# Altium schematic symbol library EXP_V1.SchLib: 20 symbols
Pins are listed as number, name and electrical type; pins without a type are passive.

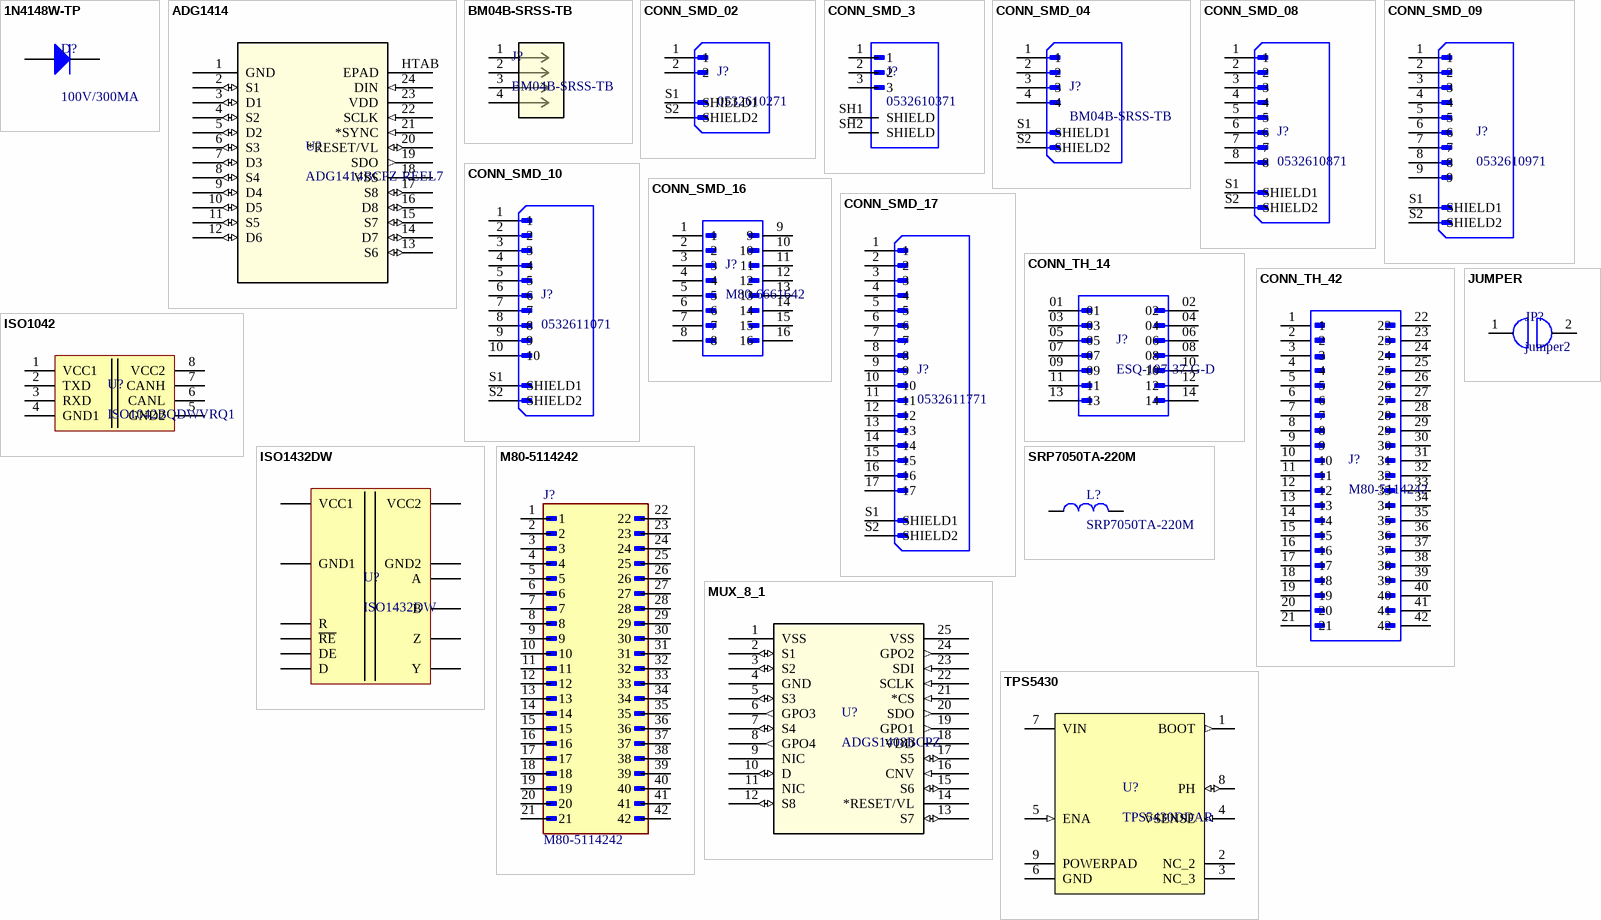
[diagram p0: symbols 1N4148W-TP to TPS5430]

## 1N4148W-TP
designator D?, comment 100V/300MA
DIODE GEN PURP 100V 300MA SOD123; MPN: 1N4148W-7-F; MFR: Diodes Incorporated; Solder: SMT; Value: 100V/300MA
footprint SOD-123-EXP-V101 (SOD123, 2-Leads, Body 2.6x1.6mm, Pitch 3.05mm, IPC High Density)
pins: 1 K, 2 A

## ADG1414
designator U?, comment ADG1414BCPZ-REEL7
IC SW SPST-NOX8 11.5OHM 24LFCSP
footprint ADG1414BCPZ-REEL7 (IC SW SPST-NOX8 11.5OHM 24LFCSP)
pins: 1 GND (power), 2 S1 (io), 3 D1 (io), 4 S2 (io), 5 D2 (io), 6 S3 (io), 7 D3 (io), 8 S4 (io), 9 D4 (io), 10 D5 (io), 11 S5 (io), 12 D6 (io), 13 S6 (io), 14 D7 (io), 15 S7 (io), 16 D8 (io), 17 S8 (io), 18 VSS (power), 19 SDO (out), 20 *RESET/VL (io), 21 *SYNC (in), 22 SCLK (in), 23 VDD (power), 24 DIN (in), HTAB EPAD

## BM04B-SRSS-TB
designator J?
CONN HEADER SMD 4POS 1MM
footprint BM04B-SRSS-TB (CONN HEADER SMD 4POS 1MM)
pins: 1, 2, 3, 4

## CONN_SMD_02
designator J?, comment 0532610271
CONN HEADER SMD R/A 2POS 1.25MM
footprint 0532610271 (CONN HEADER SMD R/A 2POS 1.25MM)
pins: 1, 2, S1 SHIELD1, S2 SHIELD2

## CONN_SMD_3
designator J?, comment 0532610371
CONN HEADER SMD R/A 3POS 1.25MM
footprint 0532610371 (CONN HEADER SMD R/A 3POS 1.25MM)
pins: 1, 2, 3, SH1 SHIELD, SH2 SHIELD

## CONN_SMD_04
designator J?, comment BM04B-SRSS-TB
CONN HEADER SMD 4POS 1MM
footprint BM04B-SRSS-TB (CONN HEADER SMD 4POS 1MM)
pins: 1, 2, 3, 4, S1 SHIELD1, S2 SHIELD2

## CONN_SMD_08
designator J?, comment 0532610871
CONN HEADER SMD R/A 8POS 1.25MM
footprint 0532610871 (CONN HEADER SMD R/A 8POS 1.25MM)
pins: 1, 2, 3, 4, 5, 6, 7, 8, S1 SHIELD1, S2 SHIELD2

## CONN_SMD_09
designator J?, comment 0532610971
CONN HEADER SMD R/A 9POS 1.25MM
footprint 0532610971 (CONN HEADER SMD R/A 9POS 1.25MM)
pins: 1, 2, 3, 4, 5, 6, 7, 8, 9, S1 SHIELD1, S2 SHIELD2

## CONN_SMD_10
designator J?, comment 0532611071
CONN HEADER SMD R/A 10POS 1.25MM
footprint 0532611071 (CONN HEADER SMD R/A 10POS 1.25MM)
pins: 1, 2, 3, 4, 5, 6, 7, 8, 9, 10, S1 SHIELD1, S2 SHIELD2

## CONN_SMD_16
designator J?, comment M80-6661642
CONN HEADER SMD R/A 16POS 2MM
footprint M80-6661642 (CONN HEADER SMD R/A 16POS 2MM)
pins: 1, 2, 3, 4, 5, 6, 7, 8, 9, 10, 11, 12, 13, 14, 15, 16

## CONN_SMD_17
designator J?, comment 0532611771
CONN HEADER SMD R/A 17POS 1.25MM
footprint 0532611771 (CONN HEADER SMD R/A 17POS 1.25MM)
pins: 1, 2, 3, 4, 5, 6, 7, 8, 9, 10, 11, 12, 13, 14, 15, 16, 17, S1 SHIELD1, S2 SHIELD2

## CONN_TH_14
designator J?, comment ESQ-107-37-G-D
CONN SOCKET 14POS 0.1 GOLD PCB
footprint ESQ-107-37-G-D (CONN SOCKET 14POS 0.1 GOLD PCB)
pins: 01, 02, 03, 04, 05, 06, 07, 08, 09, 10, 11, 12, 13, 14

## CONN_TH_42
designator J?, comment M80-5114242
CONN HEADER VERT 42POS 2MM
footprint M80-5114242 (CONN HEADER VERT 42POS 2MM)
pins: 1, 2, 3, 4, 5, 6, 7, 8, 9, 10, 11, 12, 13, 14, 15, 16, 17, 18, 19, 20, 21, 22, 23, 24, 25, 26, 27, 28, 29, 30, 31, 32, 33, 34, 35, 36, 37, 38, 39, 40, 41, 42

## ISO1042
designator U?, comment ISO1042BQDWVRQ1
IC TRANSCEIVER FULL 1/1 8SOIC
footprint ISO1042 (IC TRANSCEIVER FULL 1/1 8SOIC)
pins: 1 VCC1, 2 TXD, 3 RXD, 4 GND1, 5 GND2, 6 CANL, 7 CANH, 8 VCC2

## ISO1432DW
designator U?
IC TRANSCEIVER FULL 1/1 16SOIC
footprint ISO1432DW (IC TRANSCEIVER FULL 1/1 16SOIC)
pins: 1 VCC1, 2,8 GND1, 3 R, 4 ~{RE}, 5 DE, 6 D, 9,15 GND2, 11 Y, 12 Z, 13 B, 14 A, 16 VCC2

## JUMPER
designator JP?, comment jumper2
footprint JUMPER2
pins: 1, 2

## M80-5114242
designator J?
Package: None; Price: None; Value: *; MP: M80-5114242; Availability: Unavailable
footprint HARWIN_M80-5114242
pins: 1, 2, 3, 4, 5, 6, 7, 8, 9, 10, 11, 12, 13, 14, 15, 16, 17, 18, 19, 20, 21, 22, 23, 24, 25, 26, 27, 28, 29, 30, 31, 32, 33, 34, 35, 36, 37, 38, 39, 40, 41, 42

## MUX_8_1
designator U?, comment ADGS1408BCPZ
IC MUX 8:1 4.7OHM 24LFCSP
footprint ADGS1408BCPZ (IC MUX 8:1 4.7OHM 24LFCSP)
pins: 1 VSS (power), 2 S1 (io), 3 S2 (io), 4 GND (power), 5 S3 (io), 6 GPO3 (out), 7 S4 (io), 8 GPO4 (out), 9 NIC, 10 D (io), 11 NIC, 12 S8 (io), 13 S7 (io), 14 *RESET/VL, 15 S6 (io), 16 CNV (in), 17 S5 (io), 18 VDD (power), 19 GPO1 (out), 20 SDO (out), 21 *CS (in), 22 SCLK (in), 23 SDI (in), 24 GPO2 (out), 25 VSS (power)

## SRP7050TA-220M
designator L?
FIXED IND 22UH 2.5A 170 MOHM SMD
footprint PSM6050
pins: 1, 2

## TPS5430
designator U?, comment TPS5430DDAR
IC REG BUCK ADJ 3A 8SOPWR
footprint TPS5430DDAR (IC REG BUCK ADJ 3A 8SOPWR)
pins: 1 BOOT (out), 2 NC_2, 3 NC_3, 4 VSENSE (in), 5 ENA (in), 6 GND (power), 7 VIN (power), 8 PH (io), 9 POWERPAD (power)